# Altium integrated library Resistor - Current Sense.IntLib: 810 symbols (part 2 of 12)
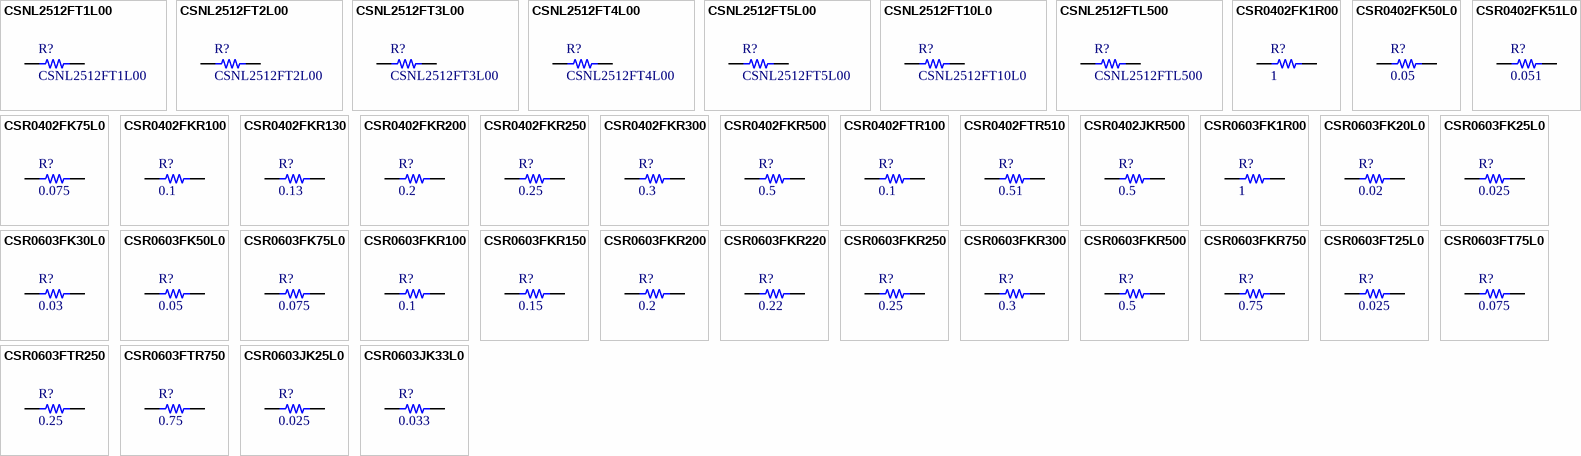
[diagram p21: symbols CSNL2512FT1L00 to CSR0603JK33L0]

## CSR0603FKR300
designator R?, comment 0.3
RES SMD 0.3 OHM 1% 1/8W 0603; Part Number: CSR0603FKR300; Manufacturer: Stackpole Electronics Inc.; TemperatureRange: -55C ~ 155C; TemperatureCoefficient: 300ppm/C; PowerRating: 0.125W, 1/8W; Value: 0.3; PartId: 9852; Supplier 1: Digi-Key; Supplier Part Number 1: CSR0603FKR300TR-ND; ComponentLink1Description: Datasheet; ComponentLink1URL: http://www.seielect.com/catalog/SEI-CSR_CSRN.pdf; ComponentLink2Description: Digi-Key Listing; ComponentLink2URL: https://www.digikey.com/product-detail/en/stackpole-electronics-inc/CSR0603FKR300/CSR0603FKR300TR-ND/2217460; Tolerance: 1%; Price: 0.064; Device Package: 0603 (1608 Metric)
footprint STACKPOLE CSR0603
pins: 1, 2

## CSR0603FKR500
designator R?, comment 0.5
RES SMD 0.5 OHM 1% 1/8W 0603; Part Number: CSR0603FKR500; Manufacturer: Stackpole Electronics Inc.; TemperatureRange: -55C ~ 155C; TemperatureCoefficient: 300ppm/C; PowerRating: 0.125W, 1/8W; Value: 0.5; PartId: 9844; Supplier 1: Digi-Key; Supplier Part Number 1: CSR0603FKR500TR-ND; ComponentLink1Description: Datasheet; ComponentLink1URL: http://www.seielect.com/catalog/SEI-CSR_CSRN.pdf; ComponentLink2Description: Digi-Key Listing; ComponentLink2URL: https://www.digikey.com/product-detail/en/stackpole-electronics-inc/CSR0603FKR500/CSR0603FKR500TR-ND/2217461; Tolerance: 1%; Price: 0.036; Device Package: 0603 (1608 Metric)
footprint STACKPOLE CSR0603
pins: 1, 2

## CSR0603FKR750
designator R?, comment 0.75
RES SMD 0.75 OHM 1% 1/8W 0603; Part Number: CSR0603FKR750; Manufacturer: Stackpole Electronics Inc.; TemperatureRange: -55C ~ 155C; TemperatureCoefficient: 300ppm/C; PowerRating: 0.125W, 1/8W; Value: 0.75; PartId: 9861; Supplier 1: Digi-Key; Supplier Part Number 1: CSR0603FKR750-ND; ComponentLink1Description: Datasheet; ComponentLink1URL: http://www.seielect.com/catalog/SEI-CSR_CSRN.pdf; ComponentLink2Description: Digi-Key Listing; ComponentLink2URL: https://www.digikey.com/product-detail/en/stackpole-electronics-inc/CSR0603FKR750/CSR0603FKR750-ND/1742492; Tolerance: 1%; Price: 0.036; Device Package: 0603 (1608 Metric)
footprint STACKPOLE CSR0603
pins: 1, 2

## CSR0603FT25L0
designator R?, comment 0.025
RES SMD 0.025 OHM 1% 1/8W 0603; Part Number: CSR0603FT25L0; Manufacturer: Stackpole Electronics Inc.; TemperatureRange: -55C ~ 155C; TemperatureCoefficient: 300ppm/C; PowerRating: 0.125W, 1/8W; Value: 0.025; PartId: 9872; Supplier 1: Digi-Key; Supplier Part Number 1: CSR0603FT25L0-ND; ComponentLink1Description: Datasheet; ComponentLink1URL: http://www.seielect.com/catalog/SEI-CSR_CSRN.pdf; ComponentLink2Description: Digi-Key Listing; ComponentLink2URL: https://www.digikey.com/product-detail/en/stackpole-electronics-inc/CSR0603FT25L0/CSR0603FT25L0-ND/1742474; Tolerance: 1%; Price: 0.1064; Device Package: 0603 (1608 Metric)
footprint STACKPOLE CSR0603
pins: 1, 2

## CSR0603FT75L0
designator R?, comment 0.075
RES SMD 0.075 OHM 1% 1/8W 0603; Part Number: CSR0603FT75L0; Manufacturer: Stackpole Electronics Inc.; TemperatureRange: -55C ~ 155C; TemperatureCoefficient: 300ppm/C; PowerRating: 0.125W, 1/8W; Value: 0.075; PartId: 9869; Supplier 1: Digi-Key; Supplier Part Number 1: CSR0603FT75L0-ND; ComponentLink1Description: Datasheet; ComponentLink1URL: http://www.seielect.com/catalog/SEI-CSR_CSRN.pdf; ComponentLink2Description: Digi-Key Listing; ComponentLink2URL: https://www.digikey.com/product-detail/en/stackpole-electronics-inc/CSR0603FT75L0/CSR0603FT75L0-ND/1742481; Tolerance: 1%; Price: 0.081; Device Package: 0603 (1608 Metric)
footprint STACKPOLE CSR0603
pins: 1, 2

## CSR0603FTR250
designator R?, comment 0.25
RES SMD 0.25 OHM 1% 1/8W 0603; Part Number: CSR0603FTR250; Manufacturer: Stackpole Electronics Inc.; TemperatureRange: -55C ~ 155C; TemperatureCoefficient: 300ppm/C; PowerRating: 0.125W, 1/8W; Value: 0.25; PartId: 9863; Supplier 1: Digi-Key; Supplier Part Number 1: CSR0603FTR250-ND; ComponentLink1Description: Datasheet; ComponentLink1URL: http://www.seielect.com/catalog/SEI-CSR_CSRN.pdf; ComponentLink2Description: Digi-Key Listing; ComponentLink2URL: https://www.digikey.com/product-detail/en/stackpole-electronics-inc/CSR0603FTR250/CSR0603FTR250-ND/1742487; Tolerance: 1%; Price: 0.054; Device Package: 0603 (1608 Metric)
footprint STACKPOLE CSR0603
pins: 1, 2

## CSR0603FTR750
designator R?, comment 0.75
RES SMD 0.75 OHM 1% 1/8W 0603; Part Number: CSR0603FTR750; Manufacturer: Stackpole Electronics Inc.; TemperatureRange: -55C ~ 155C; TemperatureCoefficient: 300ppm/C; PowerRating: 0.125W, 1/8W; Value: 0.75; PartId: 9860; Supplier 1: Digi-Key; Supplier Part Number 1: CSR0603FTR750-ND; ComponentLink1Description: Datasheet; ComponentLink1URL: http://www.seielect.com/catalog/SEI-CSR_CSRN.pdf; ComponentLink2Description: Digi-Key Listing; ComponentLink2URL: https://www.digikey.com/product-detail/en/stackpole-electronics-inc/CSR0603FTR750/CSR0603FTR750-ND/1742493; Tolerance: 1%; Price: 0.03; Device Package: 0603 (1608 Metric)
footprint STACKPOLE CSR0603
pins: 1, 2

## CSR0603JK25L0
designator R?, comment 0.025
RES SMD 0.025 OHM 5% 1/8W 0603; Part Number: CSR0603JK25L0; Manufacturer: Stackpole Electronics Inc.; TemperatureRange: -55C ~ 155C; TemperatureCoefficient: 300ppm/C; PowerRating: 0.125W, 1/8W; Value: 0.025; PartId: 9870; Supplier 1: Digi-Key; Supplier Part Number 1: CSR0603JK25L0-ND; ComponentLink1Description: Datasheet; ComponentLink1URL: http://www.seielect.com/catalog/SEI-CSR_CSRN.pdf; ComponentLink2Description: Digi-Key Listing; ComponentLink2URL: https://www.digikey.com/product-detail/en/stackpole-electronics-inc/CSR0603JK25L0/CSR0603JK25L0-ND/1742475; Tolerance: 5%; Price: 0.096; Device Package: 0603 (1608 Metric)
footprint STACKPOLE CSR0603
pins: 1, 2

## CSR0603JK33L0
designator R?, comment 0.033
RES SMD 0.033 OHM 5% 1/8W 0603; Part Number: CSR0603JK33L0; Manufacturer: Stackpole Electronics Inc.; TemperatureRange: -55C ~ 155C; TemperatureCoefficient: 300ppm/C; PowerRating: 0.125W, 1/8W; Value: 0.033; PartId: 9871; Supplier 1: Digi-Key; Supplier Part Number 1: CSR0603JK33L0-ND; ComponentLink1Description: Datasheet; ComponentLink1URL: http://www.seielect.com/catalog/SEI-CSR_CSRN.pdf; ComponentLink2Description: Digi-Key Listing; ComponentLink2URL: https://www.digikey.com/product-detail/en/stackpole-electronics-inc/CSR0603JK33L0/CSR0603JK33L0-ND/1742476; Tolerance: 5%; Price: 0.096; Device Package: 0603 (1608 Metric)
footprint STACKPOLE CSR0603
pins: 1, 2

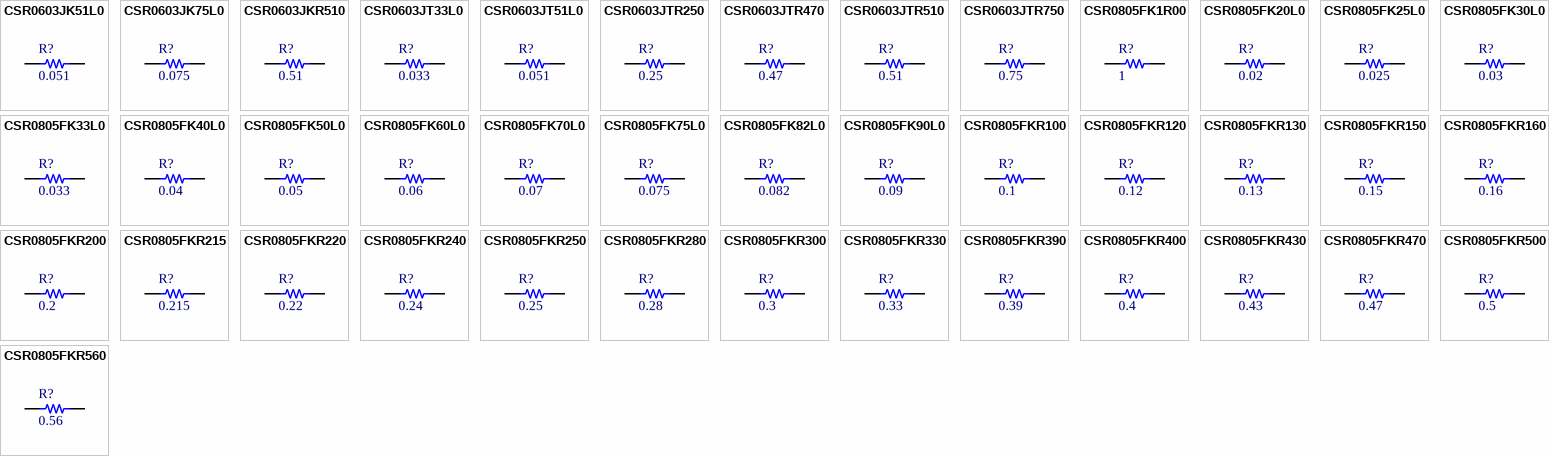
[diagram p2: symbols CSR0603JK51L0 to CSR0805FKR560]

## CSR0603JK51L0
designator R?, comment 0.051
RES SMD 0.051 OHM 5% 1/8W 0603; Part Number: CSR0603JK51L0; Manufacturer: Stackpole Electronics Inc.; TemperatureRange: -55C ~ 155C; TemperatureCoefficient: 300ppm/C; PowerRating: 0.125W, 1/8W; Value: 0.051; PartId: 9864; Supplier 1: Digi-Key; Supplier Part Number 1: CSR0603JK51L0-ND; ComponentLink1Description: Datasheet; ComponentLink1URL: http://www.seielect.com/catalog/SEI-CSR_CSRN.pdf; ComponentLink2Description: Digi-Key Listing; ComponentLink2URL: https://www.digikey.com/product-detail/en/stackpole-electronics-inc/CSR0603JK51L0/CSR0603JK51L0-ND/1742478; Tolerance: 5%; Price: 0.064; Device Package: 0603 (1608 Metric)
footprint STACKPOLE CSR0603
pins: 1, 2

## CSR0603JK75L0
designator R?, comment 0.075
RES SMD 0.075 OHM 5% 1/8W 0603; Part Number: CSR0603JK75L0; Manufacturer: Stackpole Electronics Inc.; TemperatureRange: -55C ~ 155C; TemperatureCoefficient: 300ppm/C; PowerRating: 0.125W, 1/8W; Value: 0.075; PartId: 9865; Supplier 1: Digi-Key; Supplier Part Number 1: CSR0603JK75L0-ND; ComponentLink1Description: Datasheet; ComponentLink1URL: http://www.seielect.com/catalog/SEI-CSR_CSRN.pdf; ComponentLink2Description: Digi-Key Listing; ComponentLink2URL: https://www.digikey.com/product-detail/en/stackpole-electronics-inc/CSR0603JK75L0/CSR0603JK75L0-ND/1742482; Tolerance: 5%; Price: 0.064; Device Package: 0603 (1608 Metric)
footprint STACKPOLE CSR0603
pins: 1, 2

## CSR0603JKR510
designator R?, comment 0.51
RES SMD 0.51 OHM 5% 1/8W 0603; Part Number: CSR0603JKR510; Manufacturer: Stackpole Electronics Inc.; TemperatureRange: -55C ~ 155C; TemperatureCoefficient: 300ppm/C; PowerRating: 0.125W, 1/8W; Value: 0.51; PartId: 9857; Supplier 1: Digi-Key; Supplier Part Number 1: CSR0603JKR510-ND; ComponentLink1Description: Datasheet; ComponentLink1URL: http://www.seielect.com/catalog/SEI-CSR_CSRN.pdf; ComponentLink2Description: Digi-Key Listing; ComponentLink2URL: https://www.digikey.com/product-detail/en/stackpole-electronics-inc/CSR0603JKR510/CSR0603JKR510-ND/1742490; Tolerance: 5%; Price: 0.018; Device Package: 0603 (1608 Metric)
footprint STACKPOLE CSR0603
pins: 1, 2

## CSR0603JT33L0
designator R?, comment 0.033
RES SMD 0.033 OHM 5% 1/8W 0603; Part Number: CSR0603JT33L0; Manufacturer: Stackpole Electronics Inc.; TemperatureRange: -55C ~ 155C; TemperatureCoefficient: 300ppm/C; PowerRating: 0.125W, 1/8W; Value: 0.033; PartId: 9868; Supplier 1: Digi-Key; Supplier Part Number 1: CSR0603JT33L0-ND; ComponentLink1Description: Datasheet; ComponentLink1URL: http://www.seielect.com/catalog/SEI-CSR_CSRN.pdf; ComponentLink2Description: Digi-Key Listing; ComponentLink2URL: https://www.digikey.com/product-detail/en/stackpole-electronics-inc/CSR0603JT33L0/CSR0603JT33L0-ND/1742477; Tolerance: 5%; Price: 0.081; Device Package: 0603 (1608 Metric)
footprint STACKPOLE CSR0603
pins: 1, 2

## CSR0603JT51L0
designator R?, comment 0.051
RES SMD 0.051 OHM 5% 1/8W 0603; Part Number: CSR0603JT51L0; Manufacturer: Stackpole Electronics Inc.; TemperatureRange: -55C ~ 155C; TemperatureCoefficient: 300ppm/C; PowerRating: 0.125W, 1/8W; Value: 0.051; PartId: 9862; Supplier 1: Digi-Key; Supplier Part Number 1: CSR0603JT51L0-ND; ComponentLink1Description: Datasheet; ComponentLink1URL: http://www.seielect.com/catalog/SEI-CSR_CSRN.pdf; ComponentLink2Description: Digi-Key Listing; ComponentLink2URL: https://www.digikey.com/product-detail/en/stackpole-electronics-inc/CSR0603JT51L0/CSR0603JT51L0-ND/1742479; Tolerance: 5%; Price: 0.054; Device Package: 0603 (1608 Metric)
footprint STACKPOLE CSR0603
pins: 1, 2

## CSR0603JTR250
designator R?, comment 0.25
RES SMD 0.25 OHM 5% 1/8W 0603; Part Number: CSR0603JTR250; Manufacturer: Stackpole Electronics Inc.; TemperatureRange: -55C ~ 155C; TemperatureCoefficient: 300ppm/C; PowerRating: 0.125W, 1/8W; Value: 0.25; PartId: 9858; Supplier 1: Digi-Key; Supplier Part Number 1: CSR0603JTR250-ND; ComponentLink1Description: Datasheet; ComponentLink1URL: http://www.seielect.com/catalog/SEI-CSR_CSRN.pdf; ComponentLink2Description: Digi-Key Listing; ComponentLink2URL: https://www.digikey.com/product-detail/en/stackpole-electronics-inc/CSR0603JTR250/CSR0603JTR250-ND/1742488; Tolerance: 5%; Price: 0.03; Device Package: 0603 (1608 Metric)
footprint STACKPOLE CSR0603
pins: 1, 2

## CSR0603JTR470
designator R?, comment 0.47
RES SMD 0.47 OHM 5% 1/8W 0603; Part Number: CSR0603JTR470; Manufacturer: Stackpole Electronics Inc.; TemperatureRange: -55C ~ 155C; TemperatureCoefficient: 300ppm/C; PowerRating: 0.125W, 1/8W; Value: 0.47; PartId: 9859; Supplier 1: Digi-Key; Supplier Part Number 1: CSR0603JTR470-ND; ComponentLink1Description: Datasheet; ComponentLink1URL: http://www.seielect.com/catalog/SEI-CSR_CSRN.pdf; ComponentLink2Description: Digi-Key Listing; ComponentLink2URL: https://www.digikey.com/product-detail/en/stackpole-electronics-inc/CSR0603JTR470/CSR0603JTR470-ND/1742489; Tolerance: 5%; Price: 0.03; Device Package: 0603 (1608 Metric)
footprint STACKPOLE CSR0603
pins: 1, 2

## CSR0603JTR510
designator R?, comment 0.51
RES SMD 0.51 OHM 5% 1/8W 0603; Part Number: CSR0603JTR510; Manufacturer: Stackpole Electronics Inc.; TemperatureRange: -55C ~ 155C; TemperatureCoefficient: 300ppm/C; PowerRating: 0.125W, 1/8W; Value: 0.51; PartId: 9855; Supplier 1: Digi-Key; Supplier Part Number 1: CSR0603JTR510-ND; ComponentLink1Description: Datasheet; ComponentLink1URL: http://www.seielect.com/catalog/SEI-CSR_CSRN.pdf; ComponentLink2Description: Digi-Key Listing; ComponentLink2URL: https://www.digikey.com/product-detail/en/stackpole-electronics-inc/CSR0603JTR510/CSR0603JTR510-ND/1742491; Tolerance: 5%; Price: 0.015; Device Package: 0603 (1608 Metric)
footprint STACKPOLE CSR0603
pins: 1, 2

## CSR0603JTR750
designator R?, comment 0.75
RES SMD 0.75 OHM 5% 1/8W 0603; Part Number: CSR0603JTR750; Manufacturer: Stackpole Electronics Inc.; TemperatureRange: -55C ~ 155C; TemperatureCoefficient: 300ppm/C; PowerRating: 0.125W, 1/8W; Value: 0.75; PartId: 9856; Supplier 1: Digi-Key; Supplier Part Number 1: CSR0603JTR750-ND; ComponentLink1Description: Datasheet; ComponentLink1URL: http://www.seielect.com/catalog/SEI-CSR_CSRN.pdf; ComponentLink2Description: Digi-Key Listing; ComponentLink2URL: https://www.digikey.com/product-detail/en/stackpole-electronics-inc/CSR0603JTR750/CSR0603JTR750-ND/1742494; Tolerance: 5%; Price: 0.015; Device Package: 0603 (1608 Metric)
footprint STACKPOLE CSR0603
pins: 1, 2

## CSR0805FK1R00
designator R?, comment 1
RES SMD 1 OHM 1% 1/4W 0805; Part Number: CSR0805FK1R00; Manufacturer: Stackpole Electronics Inc.; TemperatureRange: -55C ~ 155C; TemperatureCoefficient: 200ppm/C; PowerRating: 0.25W, 1/4W; Value: 1; PartId: 9879; Supplier 1: Digi-Key; Supplier Part Number 1: CSR0805FK1R00TR-ND; ComponentLink1Description: Datasheet; ComponentLink1URL: http://www.seielect.com/catalog/SEI-CSR_CSRN.pdf; ComponentLink2Description: Digi-Key Listing; ComponentLink2URL: https://www.digikey.com/product-detail/en/stackpole-electronics-inc/CSR0805FK1R00/CSR0805FK1R00TR-ND/2217466; Tolerance: 1%; Price: 0.036; Device Package: 0805 (2012 Metric)
footprint STACKPOLE CSR0805
pins: 1, 2

## CSR0805FK20L0
designator R?, comment 0.02
RES SMD 0.02 OHM 1% 1/4W 0805; Part Number: CSR0805FK20L0; Manufacturer: Stackpole Electronics Inc.; TemperatureRange: -55C ~ 155C; TemperatureCoefficient: 200ppm/C; PowerRating: 0.25W, 1/4W; Value: 0.02; PartId: 9883; Supplier 1: Digi-Key; Supplier Part Number 1: CSR0805FK20L0TR-ND; ComponentLink1Description: Datasheet; ComponentLink1URL: http://www.seielect.com/catalog/SEI-CSR_CSRN.pdf; ComponentLink2Description: Digi-Key Listing; ComponentLink2URL: https://www.digikey.com/product-detail/en/stackpole-electronics-inc/CSR0805FK20L0/CSR0805FK20L0TR-ND/2217463; Tolerance: 1%; Price: 0.112; Device Package: 0805 (2012 Metric)
footprint STACKPOLE CSR0805
pins: 1, 2

## CSR0805FK25L0
designator R?, comment 0.025
RES SMD 0.025 OHM 1% 1/4W 0805; Part Number: CSR0805FK25L0; Manufacturer: Stackpole Electronics Inc.; TemperatureRange: -55C ~ 155C; TemperatureCoefficient: 200ppm/C; PowerRating: 0.25W, 1/4W; Value: 0.025; PartId: 9875; Supplier 1: Digi-Key; Supplier Part Number 1: CSR0805FK25L0TR-ND; ComponentLink1Description: Datasheet; ComponentLink1URL: http://www.seielect.com/catalog/SEI-CSR_CSRN.pdf; ComponentLink2Description: Digi-Key Listing; ComponentLink2URL: https://www.digikey.com/product-detail/en/stackpole-electronics-inc/CSR0805FK25L0/CSR0805FK25L0TR-ND/1742412; Tolerance: 1%; Price: 0.112; Device Package: 0805 (2012 Metric)
footprint STACKPOLE CSR0805
pins: 1, 2

## CSR0805FK30L0
designator R?, comment 0.03
RES SMD 0.03 OHM 1% 1/4W 0805; Part Number: CSR0805FK30L0; Manufacturer: Stackpole Electronics Inc.; TemperatureRange: -55C ~ 155C; TemperatureCoefficient: 200ppm/C; PowerRating: 0.25W, 1/4W; Value: 0.03; PartId: 9878; Supplier 1: Digi-Key; Supplier Part Number 1: CSR0805FK30L0TR-ND; ComponentLink1Description: Datasheet; ComponentLink1URL: http://www.seielect.com/catalog/SEI-CSR_CSRN.pdf; ComponentLink2Description: Digi-Key Listing; ComponentLink2URL: https://www.digikey.com/product-detail/en/stackpole-electronics-inc/CSR0805FK30L0/CSR0805FK30L0TR-ND/2217464; Tolerance: 1%; Price: 0.112; Device Package: 0805 (2012 Metric)
footprint STACKPOLE CSR0805
pins: 1, 2

## CSR0805FK33L0
designator R?, comment 0.033
RES SMD 0.033 OHM 1% 1/4W 0805; Part Number: CSR0805FK33L0; Manufacturer: Stackpole Electronics Inc.; TemperatureRange: -55C ~ 155C; TemperatureCoefficient: 200ppm/C; PowerRating: 0.25W, 1/4W; Value: 0.033; PartId: 9921; Supplier 1: Digi-Key; Supplier Part Number 1: CSR0805FK33L0-ND; ComponentLink1Description: Datasheet; ComponentLink1URL: http://www.seielect.com/catalog/SEI-CSR_CSRN.pdf; ComponentLink2Description: Digi-Key Listing; ComponentLink2URL: https://www.digikey.com/product-detail/en/stackpole-electronics-inc/CSR0805FK33L0/CSR0805FK33L0-ND/1742414; Tolerance: 1%; Price: 0.112; Device Package: 0805 (2012 Metric)
footprint STACKPOLE CSR0805
pins: 1, 2

## CSR0805FK40L0
designator R?, comment 0.04
RES SMD 0.04 OHM 1% 1/4W 0805; Part Number: CSR0805FK40L0; Manufacturer: Stackpole Electronics Inc.; TemperatureRange: -55C ~ 155C; TemperatureCoefficient: 200ppm/C; PowerRating: 0.25W, 1/4W; Value: 0.04; PartId: 9922; Supplier 1: Digi-Key; Supplier Part Number 1: CSR0805FK40L0-ND; ComponentLink1Description: Datasheet; ComponentLink1URL: http://www.seielect.com/catalog/SEI-CSR_CSRN.pdf; ComponentLink2Description: Digi-Key Listing; ComponentLink2URL: https://www.digikey.com/product-detail/en/stackpole-electronics-inc/CSR0805FK40L0/CSR0805FK40L0-ND/1742416; Tolerance: 1%; Price: 0.112; Device Package: 0805 (2012 Metric)
footprint STACKPOLE CSR0805
pins: 1, 2

## CSR0805FK50L0
designator R?, comment 0.05
RES SMD 0.05 OHM 1% 1/4W 0805; Part Number: CSR0805FK50L0; Manufacturer: Stackpole Electronics Inc.; TemperatureRange: -55C ~ 155C; TemperatureCoefficient: 200ppm/C; PowerRating: 0.25W, 1/4W; Value: 0.05; PartId: 9881; Supplier 1: Digi-Key; Supplier Part Number 1: CSR0805FK50L0TR-ND; ComponentLink1Description: Datasheet; ComponentLink1URL: http://www.seielect.com/catalog/SEI-CSR_CSRN.pdf; ComponentLink2Description: Digi-Key Listing; ComponentLink2URL: https://www.digikey.com/product-detail/en/stackpole-electronics-inc/CSR0805FK50L0/CSR0805FK50L0TR-ND/1742419; Tolerance: 1%; Price: 0.112; Device Package: 0805 (2012 Metric)
footprint STACKPOLE CSR0805
pins: 1, 2

## CSR0805FK60L0
designator R?, comment 0.06
RES SMD 0.06 OHM 1% 1/4W 0805; Part Number: CSR0805FK60L0; Manufacturer: Stackpole Electronics Inc.; TemperatureRange: -55C ~ 155C; TemperatureCoefficient: 200ppm/C; PowerRating: 0.25W, 1/4W; Value: 0.06; PartId: 9916; Supplier 1: Digi-Key; Supplier Part Number 1: CSR0805FK60L0-ND; ComponentLink1Description: Datasheet; ComponentLink1URL: http://www.seielect.com/catalog/SEI-CSR_CSRN.pdf; ComponentLink2Description: Digi-Key Listing; ComponentLink2URL: https://www.digikey.com/product-detail/en/stackpole-electronics-inc/CSR0805FK60L0/CSR0805FK60L0-ND/1742422; Tolerance: 1%; Price: 0.096; Device Package: 0805 (2012 Metric)
footprint STACKPOLE CSR0805
pins: 1, 2

## CSR0805FK70L0
designator R?, comment 0.07
RES SMD 0.07 OHM 1% 1/4W 0805; Part Number: CSR0805FK70L0; Manufacturer: Stackpole Electronics Inc.; TemperatureRange: -55C ~ 155C; TemperatureCoefficient: 200ppm/C; PowerRating: 0.25W, 1/4W; Value: 0.07; PartId: 9917; Supplier 1: Digi-Key; Supplier Part Number 1: CSR0805FK70L0-ND; ComponentLink1Description: Datasheet; ComponentLink1URL: http://www.seielect.com/catalog/SEI-CSR_CSRN.pdf; ComponentLink2Description: Digi-Key Listing; ComponentLink2URL: https://www.digikey.com/product-detail/en/stackpole-electronics-inc/CSR0805FK70L0/CSR0805FK70L0-ND/1742425; Tolerance: 1%; Price: 0.096; Device Package: 0805 (2012 Metric)
footprint STACKPOLE CSR0805
pins: 1, 2

## CSR0805FK75L0
designator R?, comment 0.075
RES SMD 0.075 OHM 1% 1/4W 0805; Part Number: CSR0805FK75L0; Manufacturer: Stackpole Electronics Inc.; TemperatureRange: -55C ~ 155C; TemperatureCoefficient: 200ppm/C; PowerRating: 0.25W, 1/4W; Value: 0.075; PartId: 9880; Supplier 1: Digi-Key; Supplier Part Number 1: CSR0805FK75L0TR-ND; ComponentLink1Description: Datasheet; ComponentLink1URL: http://www.seielect.com/catalog/SEI-CSR_CSRN.pdf; ComponentLink2Description: Digi-Key Listing; ComponentLink2URL: https://www.digikey.com/product-detail/en/stackpole-electronics-inc/CSR0805FK75L0/CSR0805FK75L0TR-ND/1742426; Tolerance: 1%; Price: 0.096; Device Package: 0805 (2012 Metric)
footprint STACKPOLE CSR0805
pins: 1, 2

## CSR0805FK82L0
designator R?, comment 0.082
RES SMD 0.082 OHM 1% 1/4W 0805; Part Number: CSR0805FK82L0; Manufacturer: Stackpole Electronics Inc.; TemperatureRange: -55C ~ 155C; TemperatureCoefficient: 200ppm/C; PowerRating: 0.25W, 1/4W; Value: 0.082; PartId: 9918; Supplier 1: Digi-Key; Supplier Part Number 1: CSR0805FK82L0-ND; ComponentLink1Description: Datasheet; ComponentLink1URL: http://www.seielect.com/catalog/SEI-CSR_CSRN.pdf; ComponentLink2Description: Digi-Key Listing; ComponentLink2URL: https://www.digikey.com/product-detail/en/stackpole-electronics-inc/CSR0805FK82L0/CSR0805FK82L0-ND/1742428; Tolerance: 1%; Price: 0.096; Device Package: 0805 (2012 Metric)
footprint STACKPOLE CSR0805
pins: 1, 2

## CSR0805FK90L0
designator R?, comment 0.09
RES SMD 0.09 OHM 1% 1/4W 0805; Part Number: CSR0805FK90L0; Manufacturer: Stackpole Electronics Inc.; TemperatureRange: -55C ~ 155C; TemperatureCoefficient: 200ppm/C; PowerRating: 0.25W, 1/4W; Value: 0.09; PartId: 9919; Supplier 1: Digi-Key; Supplier Part Number 1: CSR0805FK90L0-ND; ComponentLink1Description: Datasheet; ComponentLink1URL: http://www.seielect.com/catalog/SEI-CSR_CSRN.pdf; ComponentLink2Description: Digi-Key Listing; ComponentLink2URL: https://www.digikey.com/product-detail/en/stackpole-electronics-inc/CSR0805FK90L0/CSR0805FK90L0-ND/1742429; Tolerance: 1%; Price: 0.096; Device Package: 0805 (2012 Metric)
footprint STACKPOLE CSR0805
pins: 1, 2

## CSR0805FKR100
designator R?, comment 0.1
RES SMD 0.1 OHM 1% 1/4W 0805; Part Number: CSR0805FKR100; Manufacturer: Stackpole Electronics Inc.; TemperatureRange: -55C ~ 155C; TemperatureCoefficient: 200ppm/C; PowerRating: 0.25W, 1/4W; Value: 0.1; PartId: 9874; Supplier 1: Digi-Key; Supplier Part Number 1: CSR0805FKR100TR-ND; ComponentLink1Description: Datasheet; ComponentLink1URL: http://www.seielect.com/catalog/SEI-CSR_CSRN.pdf; ComponentLink2Description: Digi-Key Listing; ComponentLink2URL: https://www.digikey.com/product-detail/en/stackpole-electronics-inc/CSR0805FKR100/CSR0805FKR100TR-ND/1742430; Tolerance: 1%; Price: 0.064; Device Package: 0805 (2012 Metric)
footprint STACKPOLE CSR0805
pins: 1, 2

## CSR0805FKR120
designator R?, comment 0.12
RES SMD 0.12 OHM 1% 1/4W 0805; Part Number: CSR0805FKR120; Manufacturer: Stackpole Electronics Inc.; TemperatureRange: -55C ~ 155C; TemperatureCoefficient: 200ppm/C; PowerRating: 0.25W, 1/4W; Value: 0.12; PartId: 9899; Supplier 1: Digi-Key; Supplier Part Number 1: CSR0805FKR120-ND; ComponentLink1Description: Datasheet; ComponentLink1URL: http://www.seielect.com/catalog/SEI-CSR_CSRN.pdf; ComponentLink2Description: Digi-Key Listing; ComponentLink2URL: https://www.digikey.com/product-detail/en/stackpole-electronics-inc/CSR0805FKR120/CSR0805FKR120-ND/1742434; Tolerance: 1%; Price: 0.064; Device Package: 0805 (2012 Metric)
footprint STACKPOLE CSR0805
pins: 1, 2

## CSR0805FKR130
designator R?, comment 0.13
RES SMD 0.13 OHM 1% 1/4W 0805; Part Number: CSR0805FKR130; Manufacturer: Stackpole Electronics Inc.; TemperatureRange: -55C ~ 155C; TemperatureCoefficient: 200ppm/C; PowerRating: 0.25W, 1/4W; Value: 0.13; PartId: 9900; Supplier 1: Digi-Key; Supplier Part Number 1: CSR0805FKR130-ND; ComponentLink1Description: Datasheet; ComponentLink1URL: http://www.seielect.com/catalog/SEI-CSR_CSRN.pdf; ComponentLink2Description: Digi-Key Listing; ComponentLink2URL: https://www.digikey.com/product-detail/en/stackpole-electronics-inc/CSR0805FKR130/CSR0805FKR130-ND/1742437; Tolerance: 1%; Price: 0.064; Device Package: 0805 (2012 Metric)
footprint STACKPOLE CSR0805
pins: 1, 2

## CSR0805FKR150
designator R?, comment 0.15
RES SMD 0.15 OHM 1% 1/4W 0805; Part Number: CSR0805FKR150; Manufacturer: Stackpole Electronics Inc.; TemperatureRange: -55C ~ 155C; TemperatureCoefficient: 200ppm/C; PowerRating: 0.25W, 1/4W; Value: 0.15; PartId: 9901; Supplier 1: Digi-Key; Supplier Part Number 1: CSR0805FKR150-ND; ComponentLink1Description: Datasheet; ComponentLink1URL: http://www.seielect.com/catalog/SEI-CSR_CSRN.pdf; ComponentLink2Description: Digi-Key Listing; ComponentLink2URL: https://www.digikey.com/product-detail/en/stackpole-electronics-inc/CSR0805FKR150/CSR0805FKR150-ND/1742439; Tolerance: 1%; Price: 0.064; Device Package: 0805 (2012 Metric)
footprint STACKPOLE CSR0805
pins: 1, 2

## CSR0805FKR160
designator R?, comment 0.16
RES SMD 0.16 OHM 1% 1/4W 0805; Part Number: CSR0805FKR160; Manufacturer: Stackpole Electronics Inc.; TemperatureRange: -55C ~ 155C; TemperatureCoefficient: 200ppm/C; PowerRating: 0.25W, 1/4W; Value: 0.16; PartId: 9902; Supplier 1: Digi-Key; Supplier Part Number 1: CSR0805FKR160-ND; ComponentLink1Description: Datasheet; ComponentLink1URL: http://www.seielect.com/catalog/SEI-CSR_CSRN.pdf; ComponentLink2Description: Digi-Key Listing; ComponentLink2URL: https://www.digikey.com/product-detail/en/stackpole-electronics-inc/CSR0805FKR160/CSR0805FKR160-ND/1742440; Tolerance: 1%; Price: 0.064; Device Package: 0805 (2012 Metric)
footprint STACKPOLE CSR0805
pins: 1, 2

## CSR0805FKR200
designator R?, comment 0.2
RES SMD 0.2 OHM 1% 1/4W 0805; Part Number: CSR0805FKR200; Manufacturer: Stackpole Electronics Inc.; TemperatureRange: -55C ~ 155C; TemperatureCoefficient: 200ppm/C; PowerRating: 0.25W, 1/4W; Value: 0.2; PartId: 9877; Supplier 1: Digi-Key; Supplier Part Number 1: CSR0805FKR200TR-ND; ComponentLink1Description: Datasheet; ComponentLink1URL: http://www.seielect.com/catalog/SEI-CSR_CSRN.pdf; ComponentLink2Description: Digi-Key Listing; ComponentLink2URL: https://www.digikey.com/product-detail/en/stackpole-electronics-inc/CSR0805FKR200/CSR0805FKR200TR-ND/1742442; Tolerance: 1%; Price: 0.064; Device Package: 0805 (2012 Metric)
footprint STACKPOLE CSR0805
pins: 1, 2

## CSR0805FKR215
designator R?, comment 0.215
RES SMD 0.215 OHM 1% 1/4W 0805; Part Number: CSR0805FKR215; Manufacturer: Stackpole Electronics Inc.; TemperatureRange: -55C ~ 155C; TemperatureCoefficient: 200ppm/C; PowerRating: 0.25W, 1/4W; Value: 0.215; PartId: 9903; Supplier 1: Digi-Key; Supplier Part Number 1: CSR0805FKR215-ND; ComponentLink1Description: Datasheet; ComponentLink1URL: http://www.seielect.com/catalog/SEI-CSR_CSRN.pdf; ComponentLink2Description: Digi-Key Listing; ComponentLink2URL: https://www.digikey.com/product-detail/en/stackpole-electronics-inc/CSR0805FKR215/CSR0805FKR215-ND/1742443; Tolerance: 1%; Price: 0.064; Device Package: 0805 (2012 Metric)
footprint STACKPOLE CSR0805
pins: 1, 2

## CSR0805FKR220
designator R?, comment 0.22
RES SMD 0.22 OHM 1% 1/4W 0805; Part Number: CSR0805FKR220; Manufacturer: Stackpole Electronics Inc.; TemperatureRange: -55C ~ 155C; TemperatureCoefficient: 200ppm/C; PowerRating: 0.25W, 1/4W; Value: 0.22; PartId: 9904; Supplier 1: Digi-Key; Supplier Part Number 1: CSR0805FKR220-ND; ComponentLink1Description: Datasheet; ComponentLink1URL: http://www.seielect.com/catalog/SEI-CSR_CSRN.pdf; ComponentLink2Description: Digi-Key Listing; ComponentLink2URL: https://www.digikey.com/product-detail/en/stackpole-electronics-inc/CSR0805FKR220/CSR0805FKR220-ND/1742444; Tolerance: 1%; Price: 0.064; Device Package: 0805 (2012 Metric)
footprint STACKPOLE CSR0805
pins: 1, 2

## CSR0805FKR240
designator R?, comment 0.24
RES SMD 0.24 OHM 1% 1/4W 0805; Part Number: CSR0805FKR240; Manufacturer: Stackpole Electronics Inc.; TemperatureRange: -55C ~ 155C; TemperatureCoefficient: 200ppm/C; PowerRating: 0.25W, 1/4W; Value: 0.24; PartId: 9905; Supplier 1: Digi-Key; Supplier Part Number 1: CSR0805FKR240-ND; ComponentLink1Description: Datasheet; ComponentLink1URL: http://www.seielect.com/catalog/SEI-CSR_CSRN.pdf; ComponentLink2Description: Digi-Key Listing; ComponentLink2URL: https://www.digikey.com/product-detail/en/stackpole-electronics-inc/CSR0805FKR240/CSR0805FKR240-ND/1742445; Tolerance: 1%; Price: 0.064; Device Package: 0805 (2012 Metric)
footprint STACKPOLE CSR0805
pins: 1, 2

## CSR0805FKR250
designator R?, comment 0.25
RES SMD 0.25 OHM 1% 1/4W 0805; Part Number: CSR0805FKR250; Manufacturer: Stackpole Electronics Inc.; TemperatureRange: -55C ~ 155C; TemperatureCoefficient: 200ppm/C; PowerRating: 0.25W, 1/4W; Value: 0.25; PartId: 9882; Supplier 1: Digi-Key; Supplier Part Number 1: CSR0805FKR250TR-ND; ComponentLink1Description: Datasheet; ComponentLink1URL: http://www.seielect.com/catalog/SEI-CSR_CSRN.pdf; ComponentLink2Description: Digi-Key Listing; ComponentLink2URL: https://www.digikey.com/product-detail/en/stackpole-electronics-inc/CSR0805FKR250/CSR0805FKR250TR-ND/2217465; Tolerance: 1%; Price: 0.064; Device Package: 0805 (2012 Metric)
footprint STACKPOLE CSR0805
pins: 1, 2

## CSR0805FKR280
designator R?, comment 0.28
RES SMD 0.28 OHM 1% 1/4W 0805; Part Number: CSR0805FKR280; Manufacturer: Stackpole Electronics Inc.; TemperatureRange: -55C ~ 155C; TemperatureCoefficient: 200ppm/C; PowerRating: 0.25W, 1/4W; Value: 0.28; PartId: 9906; Supplier 1: Digi-Key; Supplier Part Number 1: CSR0805FKR280-ND; ComponentLink1Description: Datasheet; ComponentLink1URL: http://www.seielect.com/catalog/SEI-CSR_CSRN.pdf; ComponentLink2Description: Digi-Key Listing; ComponentLink2URL: https://www.digikey.com/product-detail/en/stackpole-electronics-inc/CSR0805FKR280/CSR0805FKR280-ND/1742447; Tolerance: 1%; Price: 0.064; Device Package: 0805 (2012 Metric)
footprint STACKPOLE CSR0805
pins: 1, 2

## CSR0805FKR300
designator R?, comment 0.3
RES SMD 0.3 OHM 1% 1/4W 0805; Part Number: CSR0805FKR300; Manufacturer: Stackpole Electronics Inc.; TemperatureRange: -55C ~ 155C; TemperatureCoefficient: 200ppm/C; PowerRating: 0.25W, 1/4W; Value: 0.3; PartId: 9876; Supplier 1: Digi-Key; Supplier Part Number 1: CSR0805FKR300TR-ND; ComponentLink1Description: Datasheet; ComponentLink1URL: http://www.seielect.com/catalog/SEI-CSR_CSRN.pdf; ComponentLink2Description: Digi-Key Listing; ComponentLink2URL: https://www.digikey.com/product-detail/en/stackpole-electronics-inc/CSR0805FKR300/CSR0805FKR300TR-ND/1742448; Tolerance: 1%; Price: 0.064; Device Package: 0805 (2012 Metric)
footprint STACKPOLE CSR0805
pins: 1, 2

## CSR0805FKR330
designator R?, comment 0.33
RES SMD 0.33 OHM 1% 1/4W 0805; Part Number: CSR0805FKR330; Manufacturer: Stackpole Electronics Inc.; TemperatureRange: -55C ~ 155C; TemperatureCoefficient: 200ppm/C; PowerRating: 0.25W, 1/4W; Value: 0.33; PartId: 9907; Supplier 1: Digi-Key; Supplier Part Number 1: CSR0805FKR330-ND; ComponentLink1Description: Datasheet; ComponentLink1URL: http://www.seielect.com/catalog/SEI-CSR_CSRN.pdf; ComponentLink2Description: Digi-Key Listing; ComponentLink2URL: https://www.digikey.com/product-detail/en/stackpole-electronics-inc/CSR0805FKR330/CSR0805FKR330-ND/1742449; Tolerance: 1%; Price: 0.064; Device Package: 0805 (2012 Metric)
footprint STACKPOLE CSR0805
pins: 1, 2

## CSR0805FKR390
designator R?, comment 0.39
RES SMD 0.39 OHM 1% 1/4W 0805; Part Number: CSR0805FKR390; Manufacturer: Stackpole Electronics Inc.; TemperatureRange: -55C ~ 155C; TemperatureCoefficient: 200ppm/C; PowerRating: 0.25W, 1/4W; Value: 0.39; PartId: 9908; Supplier 1: Digi-Key; Supplier Part Number 1: CSR0805FKR390-ND; ComponentLink1Description: Datasheet; ComponentLink1URL: http://www.seielect.com/catalog/SEI-CSR_CSRN.pdf; ComponentLink2Description: Digi-Key Listing; ComponentLink2URL: https://www.digikey.com/product-detail/en/stackpole-electronics-inc/CSR0805FKR390/CSR0805FKR390-ND/1742452; Tolerance: 1%; Price: 0.064; Device Package: 0805 (2012 Metric)
footprint STACKPOLE CSR0805
pins: 1, 2

## CSR0805FKR400
designator R?, comment 0.4
RES SMD 0.4 OHM 1% 1/4W 0805; Part Number: CSR0805FKR400; Manufacturer: Stackpole Electronics Inc.; TemperatureRange: -55C ~ 155C; TemperatureCoefficient: 200ppm/C; PowerRating: 0.25W, 1/4W; Value: 0.4; PartId: 9909; Supplier 1: Digi-Key; Supplier Part Number 1: CSR0805FKR400-ND; ComponentLink1Description: Datasheet; ComponentLink1URL: http://www.seielect.com/catalog/SEI-CSR_CSRN.pdf; ComponentLink2Description: Digi-Key Listing; ComponentLink2URL: https://www.digikey.com/product-detail/en/stackpole-electronics-inc/CSR0805FKR400/CSR0805FKR400-ND/1742453; Tolerance: 1%; Price: 0.064; Device Package: 0805 (2012 Metric)
footprint STACKPOLE CSR0805
pins: 1, 2

## CSR0805FKR430
designator R?, comment 0.43
RES SMD 0.43 OHM 1% 1/4W 0805; Part Number: CSR0805FKR430; Manufacturer: Stackpole Electronics Inc.; TemperatureRange: -55C ~ 155C; TemperatureCoefficient: 200ppm/C; PowerRating: 0.25W, 1/4W; Value: 0.43; PartId: 9910; Supplier 1: Digi-Key; Supplier Part Number 1: CSR0805FKR430-ND; ComponentLink1Description: Datasheet; ComponentLink1URL: http://www.seielect.com/catalog/SEI-CSR_CSRN.pdf; ComponentLink2Description: Digi-Key Listing; ComponentLink2URL: https://www.digikey.com/product-detail/en/stackpole-electronics-inc/CSR0805FKR430/CSR0805FKR430-ND/1742455; Tolerance: 1%; Price: 0.064; Device Package: 0805 (2012 Metric)
footprint STACKPOLE CSR0805
pins: 1, 2

## CSR0805FKR470
designator R?, comment 0.47
RES SMD 0.47 OHM 1% 1/4W 0805; Part Number: CSR0805FKR470; Manufacturer: Stackpole Electronics Inc.; TemperatureRange: -55C ~ 155C; TemperatureCoefficient: 200ppm/C; PowerRating: 0.25W, 1/4W; Value: 0.47; PartId: 9911; Supplier 1: Digi-Key; Supplier Part Number 1: CSR0805FKR470-ND; ComponentLink1Description: Datasheet; ComponentLink1URL: http://www.seielect.com/catalog/SEI-CSR_CSRN.pdf; ComponentLink2Description: Digi-Key Listing; ComponentLink2URL: https://www.digikey.com/product-detail/en/stackpole-electronics-inc/CSR0805FKR470/CSR0805FKR470-ND/1742456; Tolerance: 1%; Price: 0.064; Device Package: 0805 (2012 Metric)
footprint STACKPOLE CSR0805
pins: 1, 2

## CSR0805FKR500
designator R?, comment 0.5
RES SMD 0.5 OHM 1% 1/4W 0805; Part Number: CSR0805FKR500; Manufacturer: Stackpole Electronics Inc.; TemperatureRange: -55C ~ 155C; TemperatureCoefficient: 200ppm/C; PowerRating: 0.25W, 1/4W; Value: 0.5; PartId: 9873; Supplier 1: Digi-Key; Supplier Part Number 1: CSR0805FKR500TR-ND; ComponentLink1Description: Datasheet; ComponentLink1URL: http://www.seielect.com/catalog/SEI-CSR_CSRN.pdf; ComponentLink2Description: Digi-Key Listing; ComponentLink2URL: https://www.digikey.com/product-detail/en/stackpole-electronics-inc/CSR0805FKR500/CSR0805FKR500TR-ND/1742457; Tolerance: 1%; Price: 0.036; Device Package: 0805 (2012 Metric)
footprint STACKPOLE CSR0805
pins: 1, 2

## CSR0805FKR560
designator R?, comment 0.56
RES SMD 0.56 OHM 1% 1/4W 0805; Part Number: CSR0805FKR560; Manufacturer: Stackpole Electronics Inc.; TemperatureRange: -55C ~ 155C; TemperatureCoefficient: 200ppm/C; PowerRating: 0.25W, 1/4W; Value: 0.56; PartId: 9886; Supplier 1: Digi-Key; Supplier Part Number 1: CSR0805FKR560-ND; ComponentLink1Description: Datasheet; ComponentLink1URL: http://www.seielect.com/catalog/SEI-CSR_CSRN.pdf; ComponentLink2Description: Digi-Key Listing; ComponentLink2URL: https://www.digikey.com/product-detail/en/stackpole-electronics-inc/CSR0805FKR560/CSR0805FKR560-ND/1742460; Tolerance: 1%; Price: 0.036; Device Package: 0805 (2012 Metric)
footprint STACKPOLE CSR0805
pins: 1, 2

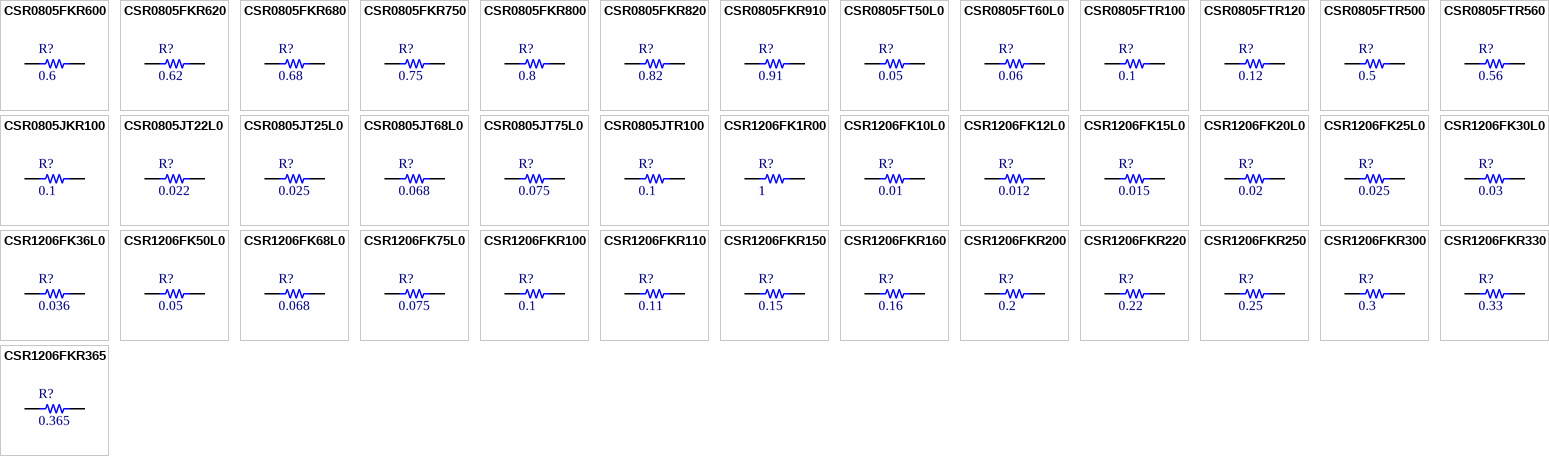
[diagram p3: symbols CSR0805FKR600 to CSR1206FKR365]

## CSR0805FKR600
designator R?, comment 0.6
RES SMD 0.6 OHM 1% 1/4W 0805; Part Number: CSR0805FKR600; Manufacturer: Stackpole Electronics Inc.; TemperatureRange: -55C ~ 155C; TemperatureCoefficient: 200ppm/C; PowerRating: 0.25W, 1/4W; Value: 0.6; PartId: 9887; Supplier 1: Digi-Key; Supplier Part Number 1: CSR0805FKR600-ND; ComponentLink1Description: Datasheet; ComponentLink1URL: http://www.seielect.com/catalog/SEI-CSR_CSRN.pdf; ComponentLink2Description: Digi-Key Listing; ComponentLink2URL: https://www.digikey.com/product-detail/en/stackpole-electronics-inc/CSR0805FKR600/CSR0805FKR600-ND/1742462; Tolerance: 1%; Price: 0.036; Device Package: 0805 (2012 Metric)
footprint STACKPOLE CSR0805
pins: 1, 2

## CSR0805FKR620
designator R?, comment 0.62
RES SMD 0.62 OHM 1% 1/4W 0805; Part Number: CSR0805FKR620; Manufacturer: Stackpole Electronics Inc.; TemperatureRange: -55C ~ 155C; TemperatureCoefficient: 200ppm/C; PowerRating: 0.25W, 1/4W; Value: 0.62; PartId: 9888; Supplier 1: Digi-Key; Supplier Part Number 1: CSR0805FKR620-ND; ComponentLink1Description: Datasheet; ComponentLink1URL: http://www.seielect.com/catalog/SEI-CSR_CSRN.pdf; ComponentLink2Description: Digi-Key Listing; ComponentLink2URL: https://www.digikey.com/product-detail/en/stackpole-electronics-inc/CSR0805FKR620/CSR0805FKR620-ND/1742463; Tolerance: 1%; Price: 0.036; Device Package: 0805 (2012 Metric)
footprint STACKPOLE CSR0805
pins: 1, 2

## CSR0805FKR680
designator R?, comment 0.68
RES SMD 0.68 OHM 1% 1/4W 0805; Part Number: CSR0805FKR680; Manufacturer: Stackpole Electronics Inc.; TemperatureRange: -55C ~ 155C; TemperatureCoefficient: 200ppm/C; PowerRating: 0.25W, 1/4W; Value: 0.68; PartId: 9889; Supplier 1: Digi-Key; Supplier Part Number 1: CSR0805FKR680-ND; ComponentLink1Description: Datasheet; ComponentLink1URL: http://www.seielect.com/catalog/SEI-CSR_CSRN.pdf; ComponentLink2Description: Digi-Key Listing; ComponentLink2URL: https://www.digikey.com/product-detail/en/stackpole-electronics-inc/CSR0805FKR680/CSR0805FKR680-ND/1742465; Tolerance: 1%; Price: 0.036; Device Package: 0805 (2012 Metric)
footprint STACKPOLE CSR0805
pins: 1, 2

## CSR0805FKR750
designator R?, comment 0.75
RES SMD 0.75 OHM 1% 1/4W 0805; Part Number: CSR0805FKR750; Manufacturer: Stackpole Electronics Inc.; TemperatureRange: -55C ~ 155C; TemperatureCoefficient: 200ppm/C; PowerRating: 0.25W, 1/4W; Value: 0.75; PartId: 9890; Supplier 1: Digi-Key; Supplier Part Number 1: CSR0805FKR750-ND; ComponentLink1Description: Datasheet; ComponentLink1URL: http://www.seielect.com/catalog/SEI-CSR_CSRN.pdf; ComponentLink2Description: Digi-Key Listing; ComponentLink2URL: https://www.digikey.com/product-detail/en/stackpole-electronics-inc/CSR0805FKR750/CSR0805FKR750-ND/1742466; Tolerance: 1%; Price: 0.036; Device Package: 0805 (2012 Metric)
footprint STACKPOLE CSR0805
pins: 1, 2

## CSR0805FKR800
designator R?, comment 0.8
RES SMD 0.8 OHM 1% 1/4W 0805; Part Number: CSR0805FKR800; Manufacturer: Stackpole Electronics Inc.; TemperatureRange: -55C ~ 155C; TemperatureCoefficient: 200ppm/C; PowerRating: 0.25W, 1/4W; Value: 0.8; PartId: 9891; Supplier 1: Digi-Key; Supplier Part Number 1: CSR0805FKR800-ND; ComponentLink1Description: Datasheet; ComponentLink1URL: http://www.seielect.com/catalog/SEI-CSR_CSRN.pdf; ComponentLink2Description: Digi-Key Listing; ComponentLink2URL: https://www.digikey.com/product-detail/en/stackpole-electronics-inc/CSR0805FKR800/CSR0805FKR800-ND/1742467; Tolerance: 1%; Price: 0.036; Device Package: 0805 (2012 Metric)
footprint STACKPOLE CSR0805
pins: 1, 2

## CSR0805FKR820
designator R?, comment 0.82
RES SMD 0.82 OHM 1% 1/4W 0805; Part Number: CSR0805FKR820; Manufacturer: Stackpole Electronics Inc.; TemperatureRange: -55C ~ 155C; TemperatureCoefficient: 200ppm/C; PowerRating: 0.25W, 1/4W; Value: 0.82; PartId: 9892; Supplier 1: Digi-Key; Supplier Part Number 1: CSR0805FKR820-ND; ComponentLink1Description: Datasheet; ComponentLink1URL: http://www.seielect.com/catalog/SEI-CSR_CSRN.pdf; ComponentLink2Description: Digi-Key Listing; ComponentLink2URL: https://www.digikey.com/product-detail/en/stackpole-electronics-inc/CSR0805FKR820/CSR0805FKR820-ND/1742468; Tolerance: 1%; Price: 0.036; Device Package: 0805 (2012 Metric)
footprint STACKPOLE CSR0805
pins: 1, 2

## CSR0805FKR910
designator R?, comment 0.91
RES SMD 0.91 OHM 1% 1/4W 0805; Part Number: CSR0805FKR910; Manufacturer: Stackpole Electronics Inc.; TemperatureRange: -55C ~ 155C; TemperatureCoefficient: 200ppm/C; PowerRating: 0.25W, 1/4W; Value: 0.91; PartId: 9893; Supplier 1: Digi-Key; Supplier Part Number 1: CSR0805FKR910-ND; ComponentLink1Description: Datasheet; ComponentLink1URL: http://www.seielect.com/catalog/SEI-CSR_CSRN.pdf; ComponentLink2Description: Digi-Key Listing; ComponentLink2URL: https://www.digikey.com/product-detail/en/stackpole-electronics-inc/CSR0805FKR910/CSR0805FKR910-ND/1742471; Tolerance: 1%; Price: 0.036; Device Package: 0805 (2012 Metric)
footprint STACKPOLE CSR0805
pins: 1, 2

## CSR0805FT50L0
designator R?, comment 0.05
RES SMD 0.05 OHM 1% 1/4W 0805; Part Number: CSR0805FT50L0; Manufacturer: Stackpole Electronics Inc.; TemperatureRange: -55C ~ 155C; TemperatureCoefficient: 200ppm/C; PowerRating: 0.25W, 1/4W; Value: 0.05; PartId: 9920; Supplier 1: Digi-Key; Supplier Part Number 1: CSR0805FT50L0-ND; ComponentLink1Description: Datasheet; ComponentLink1URL: http://www.seielect.com/catalog/SEI-CSR_CSRN.pdf; ComponentLink2Description: Digi-Key Listing; ComponentLink2URL: https://www.digikey.com/product-detail/en/stackpole-electronics-inc/CSR0805FT50L0/CSR0805FT50L0-ND/1742420; Tolerance: 1%; Price: 0.1064; Device Package: 0805 (2012 Metric)
footprint STACKPOLE CSR0805
pins: 1, 2

## CSR0805FT60L0
designator R?, comment 0.06
RES SMD 0.06 OHM 1% 1/4W 0805; Part Number: CSR0805FT60L0; Manufacturer: Stackpole Electronics Inc.; TemperatureRange: -55C ~ 155C; TemperatureCoefficient: 200ppm/C; PowerRating: 0.25W, 1/4W; Value: 0.06; PartId: 9914; Supplier 1: Digi-Key; Supplier Part Number 1: CSR0805FT60L0-ND; ComponentLink1Description: Datasheet; ComponentLink1URL: http://www.seielect.com/catalog/SEI-CSR_CSRN.pdf; ComponentLink2Description: Digi-Key Listing; ComponentLink2URL: https://www.digikey.com/product-detail/en/stackpole-electronics-inc/CSR0805FT60L0/CSR0805FT60L0-ND/1742423; Tolerance: 1%; Price: 0.081; Device Package: 0805 (2012 Metric)
footprint STACKPOLE CSR0805
pins: 1, 2

## CSR0805FTR100
designator R?, comment 0.1
RES SMD 0.1 OHM 1% 1/4W 0805; Part Number: CSR0805FTR100; Manufacturer: Stackpole Electronics Inc.; TemperatureRange: -55C ~ 155C; TemperatureCoefficient: 200ppm/C; PowerRating: 0.25W, 1/4W; Value: 0.1; PartId: 9915; Supplier 1: Digi-Key; Supplier Part Number 1: CSR0805FTR100-ND; ComponentLink1Description: Datasheet; ComponentLink1URL: http://www.seielect.com/catalog/SEI-CSR_CSRN.pdf; ComponentLink2Description: Digi-Key Listing; ComponentLink2URL: https://www.digikey.com/product-detail/en/stackpole-electronics-inc/CSR0805FTR100/CSR0805FTR100-ND/1742431; Tolerance: 1%; Price: 0.081; Device Package: 0805 (2012 Metric)
footprint STACKPOLE CSR0805
pins: 1, 2

## CSR0805FTR120
designator R?, comment 0.12
RES SMD 0.12 OHM 1% 1/4W 0805; Part Number: CSR0805FTR120; Manufacturer: Stackpole Electronics Inc.; TemperatureRange: -55C ~ 155C; TemperatureCoefficient: 200ppm/C; PowerRating: 0.25W, 1/4W; Value: 0.12; PartId: 9897; Supplier 1: Digi-Key; Supplier Part Number 1: CSR0805FTR120-ND; ComponentLink1Description: Datasheet; ComponentLink1URL: http://www.seielect.com/catalog/SEI-CSR_CSRN.pdf; ComponentLink2Description: Digi-Key Listing; ComponentLink2URL: https://www.digikey.com/product-detail/en/stackpole-electronics-inc/CSR0805FTR120/CSR0805FTR120-ND/1742435; Tolerance: 1%; Price: 0.054; Device Package: 0805 (2012 Metric)
footprint STACKPOLE CSR0805
pins: 1, 2

## CSR0805FTR500
designator R?, comment 0.5
RES SMD 0.5 OHM 1% 1/4W 0805; Part Number: CSR0805FTR500; Manufacturer: Stackpole Electronics Inc.; TemperatureRange: -55C ~ 155C; TemperatureCoefficient: 200ppm/C; PowerRating: 0.25W, 1/4W; Value: 0.5; PartId: 9884; Supplier 1: Digi-Key; Supplier Part Number 1: CSR0805FTR500-ND; ComponentLink1Description: Datasheet; ComponentLink1URL: http://www.seielect.com/catalog/SEI-CSR_CSRN.pdf; ComponentLink2Description: Digi-Key Listing; ComponentLink2URL: https://www.digikey.com/product-detail/en/stackpole-electronics-inc/CSR0805FTR500/CSR0805FTR500-ND/1742458; Tolerance: 1%; Price: 0.03; Device Package: 0805 (2012 Metric)
footprint STACKPOLE CSR0805
pins: 1, 2

## CSR0805FTR560
designator R?, comment 0.56
RES SMD 0.56 OHM 1% 1/4W 0805; Part Number: CSR0805FTR560; Manufacturer: Stackpole Electronics Inc.; TemperatureRange: -55C ~ 155C; TemperatureCoefficient: 200ppm/C; PowerRating: 0.25W, 1/4W; Value: 0.56; PartId: 9885; Supplier 1: Digi-Key; Supplier Part Number 1: CSR0805FTR560-ND; ComponentLink1Description: Datasheet; ComponentLink1URL: http://www.seielect.com/catalog/SEI-CSR_CSRN.pdf; ComponentLink2Description: Digi-Key Listing; ComponentLink2URL: https://www.digikey.com/product-detail/en/stackpole-electronics-inc/CSR0805FTR560/CSR0805FTR560-ND/1742461; Tolerance: 1%; Price: 0.03; Device Package: 0805 (2012 Metric)
footprint STACKPOLE CSR0805
pins: 1, 2

## CSR0805JKR100
designator R?, comment 0.1
RES SMD 0.1 OHM 5% 1/4W 0805; Part Number: CSR0805JKR100; Manufacturer: Stackpole Electronics Inc.; TemperatureRange: -55C ~ 155C; TemperatureCoefficient: 200ppm/C; PowerRating: 0.25W, 1/4W; Value: 0.1; PartId: 9898; Supplier 1: Digi-Key; Supplier Part Number 1: CSR0805JKR100-ND; ComponentLink1Description: Datasheet; ComponentLink1URL: http://www.seielect.com/catalog/SEI-CSR_CSRN.pdf; ComponentLink2Description: Digi-Key Listing; ComponentLink2URL: https://www.digikey.com/product-detail/en/stackpole-electronics-inc/CSR0805JKR100/CSR0805JKR100-ND/1742432; Tolerance: 5%; Price: 0.064; Device Package: 0805 (2012 Metric)
footprint STACKPOLE CSR0805
pins: 1, 2

## CSR0805JT22L0
designator R?, comment 0.022
RES SMD 0.022 OHM 5% 1/4W 0805; Part Number: CSR0805JT22L0; Manufacturer: Stackpole Electronics Inc.; TemperatureRange: -55C ~ 155C; TemperatureCoefficient: 200ppm/C; PowerRating: 0.25W, 1/4W; Value: 0.022; PartId: 9912; Supplier 1: Digi-Key; Supplier Part Number 1: CSR0805JT22L0-ND; ComponentLink1Description: Datasheet; ComponentLink1URL: http://www.seielect.com/catalog/SEI-CSR_CSRN.pdf; ComponentLink2Description: Digi-Key Listing; ComponentLink2URL: https://www.digikey.com/product-detail/en/stackpole-electronics-inc/CSR0805JT22L0/CSR0805JT22L0-ND/1742411; Tolerance: 5%; Price: 0.081; Device Package: 0805 (2012 Metric)
footprint STACKPOLE CSR0805
pins: 1, 2

## CSR0805JT25L0
designator R?, comment 0.025
RES SMD 0.025 OHM 5% 1/4W 0805; Part Number: CSR0805JT25L0; Manufacturer: Stackpole Electronics Inc.; TemperatureRange: -55C ~ 155C; TemperatureCoefficient: 200ppm/C; PowerRating: 0.25W, 1/4W; Value: 0.025; PartId: 9913; Supplier 1: Digi-Key; Supplier Part Number 1: CSR0805JT25L0-ND; ComponentLink1Description: Datasheet; ComponentLink1URL: http://www.seielect.com/catalog/SEI-CSR_CSRN.pdf; ComponentLink2Description: Digi-Key Listing; ComponentLink2URL: https://www.digikey.com/product-detail/en/stackpole-electronics-inc/CSR0805JT25L0/CSR0805JT25L0-ND/1742413; Tolerance: 5%; Price: 0.081; Device Package: 0805 (2012 Metric)
footprint STACKPOLE CSR0805
pins: 1, 2

## CSR0805JT68L0
designator R?, comment 0.068
RES SMD 0.068 OHM 5% 1/4W 0805; Part Number: CSR0805JT68L0; Manufacturer: Stackpole Electronics Inc.; TemperatureRange: -55C ~ 155C; TemperatureCoefficient: 200ppm/C; PowerRating: 0.25W, 1/4W; Value: 0.068; PartId: 9894; Supplier 1: Digi-Key; Supplier Part Number 1: CSR0805JT68L0-ND; ComponentLink1Description: Datasheet; ComponentLink1URL: http://www.seielect.com/catalog/SEI-CSR_CSRN.pdf; ComponentLink2Description: Digi-Key Listing; ComponentLink2URL: https://www.digikey.com/product-detail/en/stackpole-electronics-inc/CSR0805JT68L0/CSR0805JT68L0-ND/1742424; Tolerance: 5%; Price: 0.054; Device Package: 0805 (2012 Metric)
footprint STACKPOLE CSR0805
pins: 1, 2

## CSR0805JT75L0
designator R?, comment 0.075
RES SMD 0.075 OHM 5% 1/4W 0805; Part Number: CSR0805JT75L0; Manufacturer: Stackpole Electronics Inc.; TemperatureRange: -55C ~ 155C; TemperatureCoefficient: 200ppm/C; PowerRating: 0.25W, 1/4W; Value: 0.075; PartId: 9895; Supplier 1: Digi-Key; Supplier Part Number 1: CSR0805JT75L0-ND; ComponentLink1Description: Datasheet; ComponentLink1URL: http://www.seielect.com/catalog/SEI-CSR_CSRN.pdf; ComponentLink2Description: Digi-Key Listing; ComponentLink2URL: https://www.digikey.com/product-detail/en/stackpole-electronics-inc/CSR0805JT75L0/CSR0805JT75L0-ND/1742427; Tolerance: 5%; Price: 0.054; Device Package: 0805 (2012 Metric)
footprint STACKPOLE CSR0805
pins: 1, 2

## CSR0805JTR100
designator R?, comment 0.1
RES SMD 0.1 OHM 5% 1/4W 0805; Part Number: CSR0805JTR100; Manufacturer: Stackpole Electronics Inc.; TemperatureRange: -55C ~ 155C; TemperatureCoefficient: 200ppm/C; PowerRating: 0.25W, 1/4W; Value: 0.1; PartId: 9896; Supplier 1: Digi-Key; Supplier Part Number 1: CSR0805JTR100-ND; ComponentLink1Description: Datasheet; ComponentLink1URL: http://www.seielect.com/catalog/SEI-CSR_CSRN.pdf; ComponentLink2Description: Digi-Key Listing; ComponentLink2URL: https://www.digikey.com/product-detail/en/stackpole-electronics-inc/CSR0805JTR100/CSR0805JTR100-ND/1742433; Tolerance: 5%; Price: 0.054; Device Package: 0805 (2012 Metric)
footprint STACKPOLE CSR0805
pins: 1, 2

## CSR1206FK1R00
designator R?, comment 1
RES SMD 1 OHM 1% 1/2W 1206; Part Number: CSR1206FK1R00; Manufacturer: Stackpole Electronics Inc.; TemperatureRange: -55C ~ 155C; TemperatureCoefficient: 100ppm/C; PowerRating: 0.5W, 1/2W; Value: 1; PartId: 9988; Supplier 1: Digi-Key; Supplier Part Number 1: CSR1206FK1R00TR-ND; ComponentLink1Description: Datasheet; ComponentLink1URL: http://www.seielect.com/catalog/SEI-CSR_CSRN.pdf; ComponentLink2Description: Digi-Key Listing; ComponentLink2URL: https://www.digikey.com/product-detail/en/stackpole-electronics-inc/CSR1206FK1R00/CSR1206FK1R00TR-ND/1742410; Tolerance: 1%; Price: 0.051; Device Package: 1206 (3216 Metric)
footprint STACKPOLE CSR1206
pins: 1, 2

## CSR1206FK10L0
designator R?, comment 0.01
RES SMD 0.01 OHM 1% 1/2W 1206; Part Number: CSR1206FK10L0; Manufacturer: Stackpole Electronics Inc.; TemperatureRange: -55C ~ 155C; PowerRating: 0.5W, 1/2W; Value: 0.01; PartId: 9924; Supplier 1: Digi-Key; Supplier Part Number 1: CSR1206FK10L0TR-ND; ComponentLink1Description: Datasheet; ComponentLink1URL: http://www.seielect.com/catalog/SEI-CSR_CSRN.pdf; ComponentLink2Description: Digi-Key Listing; ComponentLink2URL: https://www.digikey.com/product-detail/en/stackpole-electronics-inc/CSR1206FK10L0/CSR1206FK10L0TR-ND/1646091; Tolerance: 1%; Price: 0.112; Device Package: 1206 (3216 Metric)
footprint STACKPOLE CSR1206
pins: 1, 2